# Altium footprint library Buzzer.PcbLib: 1 footprints
Each footprint in its own frame and in the unit in brackets; x right, y up, seen from the top. Pads: shape width x height; smd on the part's side, far side on the other; paste and mask are expansions set on the pad; w line width, h text height; cw(c..) or ccw(c..) is an arc to the next point about the centre after c.
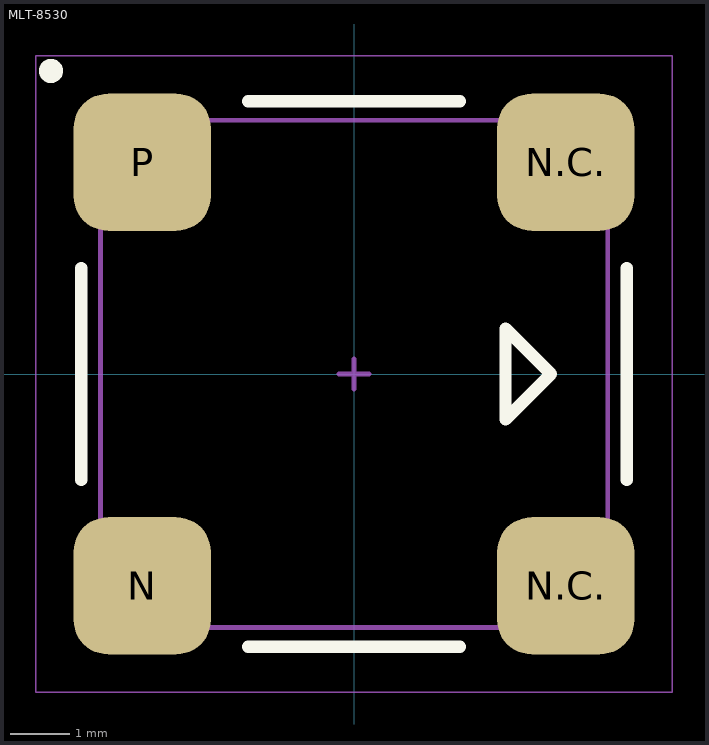
[diagram p0: the footprint, top view; thin cyan lines are the x and y axes]

## MLT-8530 [mm]
pads (4):
  rrect50% 2.3x2.3 smd: N(-3.55,-3.55) N.C.(3.55,-3.55) N.C.(3.55,3.55) P(-3.55,3.55)
Top Overlay:
  circle w0.203: c-5.08,5.08 r0.102
  lines w0.203: -4.572,-1.778 -4.572,1.778 ; -1.778,-4.572 1.778,-4.572 ; -1.778,4.572 1.778,4.572 ; 4.572,-1.778 4.572,1.778 ; 2.54,-0.762 2.54,0.762 3.302,0 2.54,-0.762
Mechanical 13:
  lines w0.076: -4.25,-4.25 -4.25,4.25 4.25,4.25 4.25,-4.25 -4.25,-4.25
Mechanical 15:
  lines w0.025: -5.334,-5.334 5.334,-5.334 5.334,5.334 -5.334,5.334 -5.334,-5.334
  lines w0.076: -0.254,0 0.254,0 ; 0,-0.254 0,0.254
3D body "MLT-8530.step": height 3.01, standoff 0.01, extent -4.25,-4.25 4.25,4.25